# Altium footprint library Shrouded_Header_2x5_127.PcbLib: 1 footprints
Each footprint in its own frame and in the unit in brackets; x right, y up, seen from the top. Pads: shape width x height; smd on the part's side, far side on the other; paste and mask are expansions set on the pad; w line width, h text height; cw(c..) or ccw(c..) is an arc to the next point about the centre after c.
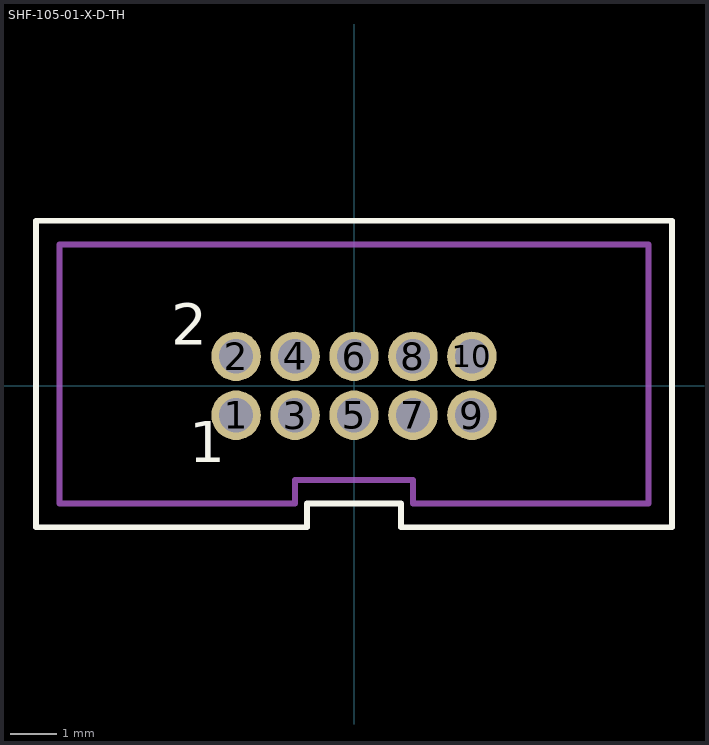
[diagram p0: the footprint, top view; thin cyan lines are the x and y axes]

## SHF-105-01-X-D-TH [mil]
pads (10):
  round 42 hole 29: 1(-100,-25) 2(-100,25) 3(-50,-25) 4(-50,25) 5(0,-25) 6(0,25) 7(50,-25) 8(50,25) 9(100,-25) 10(100,25)
Top Overlay:
  lines w5: -270,-120 -270,140 -193,140 -70,140 70,140 193,140 270,140 270,-120 40,-120 40,-100 -40,-100 -40,-120 -270,-120
  text "1" at -140,-65 h35
  text "2" at -155,35 h35
Mechanical 1:
  lines w5: -250,-100 -250,120 -213,120 -50,120 50,120 213,120 250,120 250,-100 50,-100 50,-80 -50,-80 -50,-100 -250,-100